# Altium schematic symbol library HDC2022.SchLib: 16 symbols
Pins are listed as number, name and electrical type; pins without a type are passive.

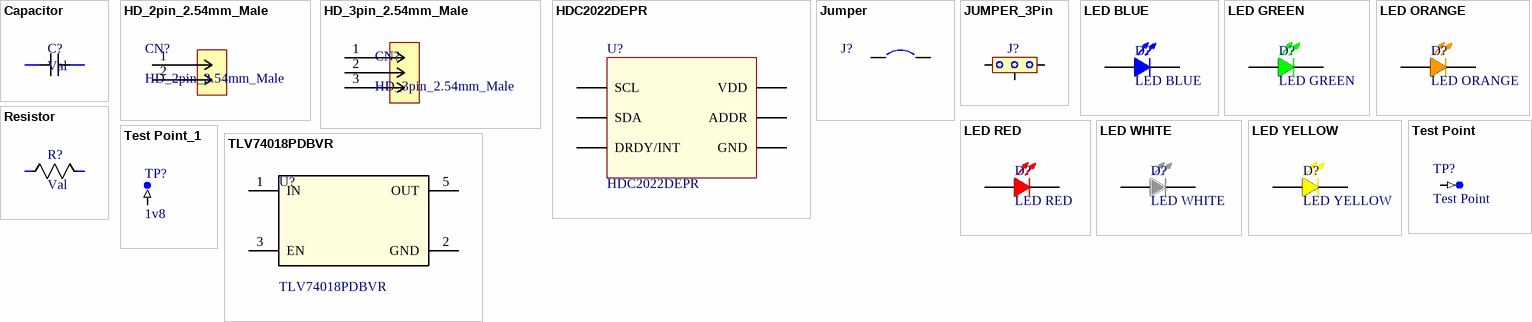
[diagram p0: symbols Capacitor to TLV74018PDBVR]

## Capacitor
designator C?, comment Val
footprint CAP_0201 (Chip Capacitor, 2-Leads, Body 0.60x0.30mm, IPC Medium Density)
footprint CAP_0402 (Chip Capacitor, 2-Leads, Body 1.00x0.50mm, IPC Medium Density)
footprint CAP_0603 (Chip Capacitor, 2-Leads, Body 1.50x0.80mm, IPC Medium Density)
footprint CAP_0805 (Chip Capacitor, 2-Leads, Body 2.00x1.25mm, IPC Medium Density)
pins: 1, 2

## HD_2pin_2.54mm_Male
designator CN?
footprint HD_2pin_2.54mm_male
pins: 1, 2

## HD_3pin_2.54mm_Male
designator CN?
footprint HD_3pin_2.54mm_male
pins: 1, 2, 3 23

## HDC2022DEPR
designator U?
Manufacturer: Texas Instruments; Supplier 1: Digi-Key; Manufacturer Part Number: HDC2022DEPR; RoHS: No; Stock 1: 2745; Pricing 1: 1=4,49000, 5=3,96000, 10=3,49800, 25=2,83800, 50=2,50800, 100=2,44200, 500=2,04600, 1000=1,91400 (USD); Supplier Part Number 1: 296-HDC2022DEPRCT-ND
footprint WSON-6
pins: 1 SDA, 2 GND, 3 ADDR, 4 DRDY/INT, 5 VDD, 6 SCL

## Jumper
designator J?
Jumper; Published: 24-Mar-1999; Revision: July-2002: Re-released for DXP Platform.; Publisher: Altium Limited
footprint SB_0603 (Footprint not found)
pins: 1, 2

## JUMPER_3Pin
designator J?  (value not drawn)
footprint SB_0603 - 3 Pin (Jumper)
pins: 1, 2, 3

## LED BLUE
designator D?
footprint LED_0402 (Chip Capacitor, 2-Leads, Body 1.00x0.50mm, IPC Medium Density)
footprint LED_0201 (Chip Capacitor, 2-Leads, Body 0.60x0.30mm, IPC Medium Density)
footprint LED_0603 (Chip Capacitor, 2-Leads, Body 1.50x0.80mm, IPC Medium Density)
footprint LED_0805 (Chip Capacitor, 2-Leads, Body 2.00x1.25mm, IPC Medium Density)
pins: A, C

## LED GREEN
designator D?
footprint LED_0201 (Chip Capacitor, 2-Leads, Body 0.60x0.30mm, IPC Medium Density)
footprint LED_0402 (Chip Capacitor, 2-Leads, Body 1.00x0.50mm, IPC Medium Density)
footprint LED_0603 (Chip Capacitor, 2-Leads, Body 1.50x0.80mm, IPC Medium Density)
footprint LED_0805 (Chip Capacitor, 2-Leads, Body 2.00x1.25mm, IPC Medium Density)
pins: A, C

## LED ORANGE
designator D?
footprint LED_0201 (Chip Capacitor, 2-Leads, Body 0.60x0.30mm, IPC Medium Density)
footprint LED_0402 (Chip Capacitor, 2-Leads, Body 1.00x0.50mm, IPC Medium Density)
footprint LED_0603 (Chip Capacitor, 2-Leads, Body 1.50x0.80mm, IPC Medium Density)
footprint LED_0805 (Chip Capacitor, 2-Leads, Body 2.00x1.25mm, IPC Medium Density)
pins: A, C

## LED RED
designator D?
footprint LED_0805 (Chip Capacitor, 2-Leads, Body 2.00x1.25mm, IPC Medium Density)
footprint LED_0603 (Chip Capacitor, 2-Leads, Body 1.50x0.80mm, IPC Medium Density)
footprint LED_0201 (Chip Capacitor, 2-Leads, Body 0.60x0.30mm, IPC Medium Density)
footprint LED_0402 (Chip Capacitor, 2-Leads, Body 1.00x0.50mm, IPC Medium Density)
pins: A, C

## LED WHITE
designator D?
footprint LED_0201 (Chip Capacitor, 2-Leads, Body 0.60x0.30mm, IPC Medium Density)
footprint LED_0402 (Chip Capacitor, 2-Leads, Body 1.00x0.50mm, IPC Medium Density)
footprint LED_0603 (Chip Capacitor, 2-Leads, Body 1.50x0.80mm, IPC Medium Density)
footprint LED_0805 (Chip Capacitor, 2-Leads, Body 2.00x1.25mm, IPC Medium Density)
pins: A, C

## LED YELLOW
designator D?
footprint LED_0201 (Chip Capacitor, 2-Leads, Body 0.60x0.30mm, IPC Medium Density)
footprint LED_0402 (Chip Capacitor, 2-Leads, Body 1.00x0.50mm, IPC Medium Density)
footprint LED_0603 (Chip Capacitor, 2-Leads, Body 1.50x0.80mm, IPC Medium Density)
footprint LED_0805 (Chip Capacitor, 2-Leads, Body 2.00x1.25mm, IPC Medium Density)
pins: A, C

## Resistor
designator R?, comment Val
footprint RES_0201 (Chip Capacitor, 2-Leads, Body 0.60x0.30mm, IPC Medium Density)
footprint RES_0402 (Chip Capacitor, 2-Leads, Body 1.00x0.50mm, IPC Medium Density)
footprint RES_0603 (Chip Resistor, 2-Leads, Body 1.55x0.80mm, IPC Medium Density)
footprint RES_0805
pins: 1, 2

## Test Point
designator TP?
footprint TP
pins: 1 (in)

## Test Point_1
designator TP?, comment 1v8
footprint TP
pins: 1 (in)

## TLV74018PDBVR
designator U?
Manufacturer: Texas Instruments; Supplier 1: Digi-Key; Manufacturer Part Number: TLV74018PDBVR; RoHS: No; Stock 1: 4366; Pricing 1: 1=0,24000, 10=0,19400, 25=0,16200, 100=0,09000, 250=0,07920, 500=0,06750, 1000=0,04590 (USD); Supplier Part Number 1: 296-TLV74018PDBVRCT-ND
footprint SOIC_DBVR_TEX
pins: 1 IN, 2 GND, 3 EN, 4 NC, 5 OUT